# Altium footprint library PcbLib1.PcbLib: 10 footprints
Each footprint in its own frame and in the unit in brackets; x right, y up, seen from the top. Pads: shape width x height; smd on the part's side, far side on the other; paste and mask are expansions set on the pad; w line width, h text height; cw(c..) or ccw(c..) is an arc to the next point about the centre after c.
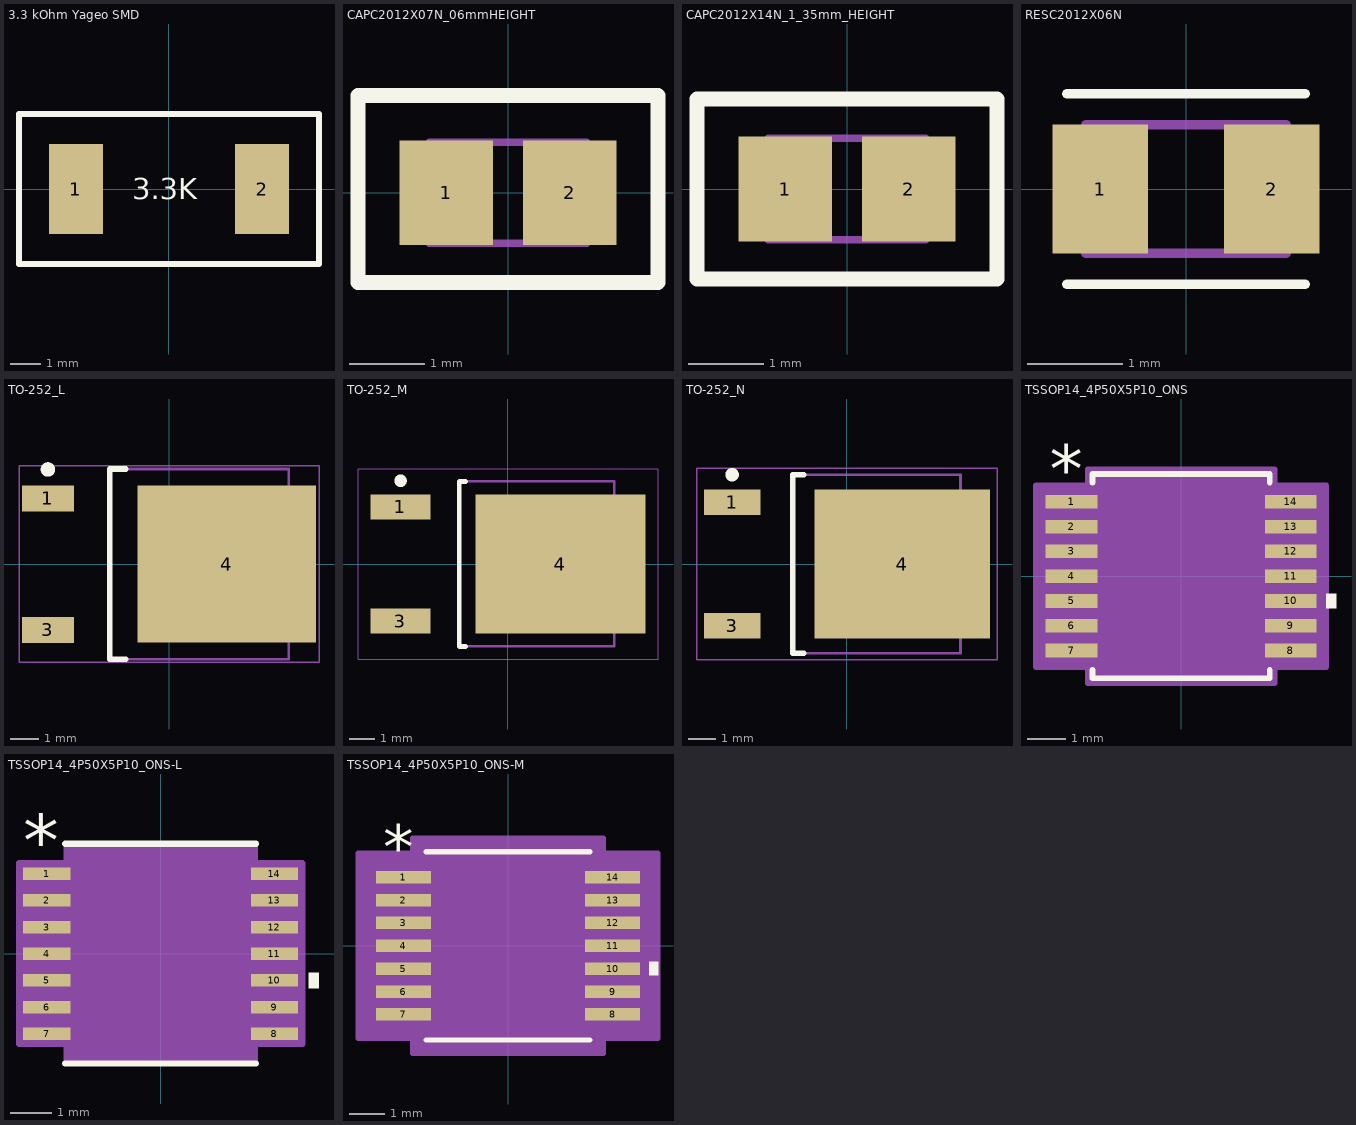
[diagram p0: the footprints below, top view; thin cyan lines are the x and y axes]

## 3.3 kOhm Yageo SMD [mm]
pads (2):
  rect 1.8x3 smd: 1(-3.1,0) 2(3.1,0)
Top Overlay:
  lines w0.2: -5,-2.5 5,-2.5 5,2.5 -5,2.5 -5,-2.5
  text "3.3K" at -1.225,-0.35 h0.7
Top Assembly:
  lines w0.2: -5,-2.5 5,-2.5 5,2.5 -5,2.5 -5,-2.5
  text ".Designator" at -3.499,-0.233 h0.7
3D body "Resistor_SMD_Yageo_2512.STEP": height 0.63, standoff -0.02, extent -3.175,-1.55 3.175,1.55

## CAPC2012X07N_06mmHEIGHT [mm] "Chip Capacitor, 2-Leads, Body 2.00x1.25mm, IPC Medium Density"
height 0.7
pads (2):
  rect 1.25x1.4 smd: 1(-0.825,0) 2(0.825,0)
Top Overlay:
  lines w0.2: -2,-1.2 2,-1.2 2,1.3 -2,1.3 -2,-1.2
Top Assembly:
  lines w0.1: -1.05,-0.675 -1.05,0.675 1.05,0.675 1.05,-0.675 -1.05,-0.675
  text ".Designator" at -3.499,-0.233 h0.7
3D body "CAPC2012X07N.step": height 0.7, standoff 0, extent -1.05,-0.675 1.05,0.675

## CAPC2012X14N_1_35mm_HEIGHT [mm] "Chip Capacitor, 2-Leads, Body 2.00x1.25mm, IPC Medium Density"
height 1.45
pads (2):
  rect 1.25x1.4 smd: 1(-0.825,0) 2(0.825,0)
Top Overlay:
  lines w0.2: -2,-1.2 2,-1.2 2,1.2 -2,1.2 -2,-1.2
Top Assembly:
  lines w0.1: -1.05,-0.675 1.05,-0.675 1.05,0.675 -1.05,0.675 -1.05,-0.675
  text ".Designator" at -3.499,-0.233 h0.7
3D body "CAPC2012X14N.step": height 1.45, standoff 0, extent -1.05,-0.675 1.05,0.675

## RESC2012X06N [mm] "Chip Resistor, 2-Leads, Body 2.00x1.25mm, IPC Medium Density"
height 0.6
pads (2):
  rect 1x1.35 smd: 1(-0.9,0) 2(0.9,0)
Top Overlay:
  lines w0.1: -1.25,-1 1.25,-1 ; -1.25,1 1.25,1
Top Assembly:
  lines w0.1: -1.05,-0.675 -1.05,0.675 1.05,0.675 1.05,-0.675 -1.05,-0.675
  text ".Designator" at -3.499,-0.233 h0.7
3D body "RESC2012X06N.step": height 0.6, standoff 0, extent -1.05,-0.675 1.05,0.675

## TO-252_L [mm] "D-PAK, 4-Leads, Body 6.1x6.5mm, Pitch 2.28mm, Lead Span 9.7mm, IPC High Density"
height 2.4
pads (3):
  rect 1.8x0.9 smd: 1(-4.2,2.28) 3(-4.2,-2.28)
  rect 6.2x5.45 smd: 4(2,0)
Top Overlay:
  circle w0.25: c-4.2,3.28 r0.125
  lines w0.2: -1.5,-3.3 -2.05,-3.3 -2.05,3.3 -1.5,3.3
Mechanical 13:
  lines w0.1: -2.05,-3.3 4.15,-3.3 4.15,3.3 -2.05,3.3 -2.05,-3.3
Mechanical 15:
  lines w0.05: -5.2,-3.4 5.2,-3.4 5.2,3.4 -5.2,3.4 -5.2,-3.4
  lines w0.1: -0.5,0 0.5,0 ; 0,-0.5 0,0.5
3D body: height 2.4, standoff 0, extent -2.05,-3.3 4.15,3.3

## TO-252_M [mm] "D-PAK, 4-Leads, Body 6.1x6.5mm, Pitch 2.28mm, Lead Span 9.7mm, IPC Low Density"
height 2.4
pads (3):
  rect 2.4x1 smd: 1(-4.3,2.28) 3(-4.3,-2.28)
  rect 6.8x5.55 smd: 4(2.1,0)
Top Overlay:
  circle w0.25: c-4.3,3.33 r0.125
  lines w0.2: -1.7,-3.3 -1.95,-3.3 -1.95,3.3 -1.7,3.3
Mechanical 13:
  lines w0.1: -1.95,-3.3 4.25,-3.3 4.25,3.3 -1.95,3.3 -1.95,-3.3
Mechanical 15:
  lines w0.05: -6,-3.8 6,-3.8 6,3.8 -6,3.8 -6,-3.8
  lines w0.1: -0.5,0 0.5,0 ; 0,-0.5 0,0.5
3D body: height 2.4, standoff 0, extent -1.95,-3.3 4.25,3.3

## TO-252_N [mm] "D-PAK, 4-Leads, Body 6.1x6.5mm, Pitch 2.28mm, Lead Span 9.7mm, IPC Medium Density"
height 2.4
pads (3):
  rect 2.1x0.95 smd: 1(-4.25,2.28) 3(-4.25,-2.28)
  rect 6.5x5.5 smd: 4(2.05,0)
Top Overlay:
  circle w0.25: c-4.25,3.305 r0.125
  lines w0.2: -1.6,-3.3 -2,-3.3 -2,3.3 -1.6,3.3
Mechanical 13:
  lines w0.1: -2,-3.3 4.2,-3.3 4.2,3.3 -2,3.3 -2,-3.3
Mechanical 15:
  lines w0.05: -5.55,-3.55 5.55,-3.55 5.55,3.55 -5.55,3.55 -5.55,-3.55
  lines w0.1: -0.5,0 0.5,0 ; 0,-0.5 0,0.5
3D body: height 2.4, standoff 0, extent -2,-3.3 4.2,3.3

## TSSOP14_4P50X5P10_ONS [mil]
pads (14):
  rect 53.5x14 smd paste+0 mask+0: 1(-113.25,76.77) 2(-113.25,51.18) 3(-113.25,25.59) 4(-113.25,0) 5(-113.25,-25.59) 6(-113.25,-51.18) 7(-113.25,-76.77) 8(113.25,-76.77) 9(113.25,-51.18) 10(113.25,-25.59) 11(113.25,0) 12(113.25,25.59) 13(113.25,51.18) 14(113.25,76.77)
Top Overlay:
  region: 150,-18.09 160,-18.09 160,-33.09 150,-33.09
  lines w6: -91.5,-96.87 -91.5,-105.5 91.5,-105.5 91.5,-96.87 ; -91.5,96.87 -91.5,105.5 91.5,105.5 91.5,96.87
  text "*" at -135.75,85.77 h50
Mechanical 13:
  lines w0: -12,100.5 ccw(c0,100.5) 12,100.5
  lines w1: -126,-82.77 -86.5,-82.77 -86.5,-70.77 -126,-70.77 -126,-82.77 ; -126,-57.18 -86.5,-57.18 -86.5,-45.18 -126,-45.18 -126,-57.18 ; -126,-31.59 -86.5,-31.59 -86.5,-19.59 -126,-19.59 -126,-31.59 ; -126,-6 -86.5,-6 -86.5,6 -126,6 -126,-6 ; -126,19.59 -86.5,19.59 -86.5,31.59 -126,31.59 -126,19.59 ; -126,45.18 -86.5,45.18 -86.5,57.18 -126,57.18 -126,45.18 ; -126,70.77 -86.5,70.77 -86.5,82.77 -126,82.77 -126,70.77 ; -86.5,-100.5 -86.5,100.5 86.5,100.5 86.5,-100.5 -86.5,-100.5 ; 86.5,-82.77 126,-82.77 126,-70.77 86.5,-70.77 86.5,-82.77 ; 86.5,-57.18 126,-57.18 126,-45.18 86.5,-45.18 86.5,-57.18 ; 86.5,-31.59 126,-31.59 126,-19.59 86.5,-19.59 86.5,-31.59 ; 86.5,-6 126,-6 126,6 86.5,6 86.5,-6 ; 86.5,19.59 126,19.59 126,31.59 86.5,31.59 86.5,19.59 ; 86.5,45.18 126,45.18 126,57.18 86.5,57.18 86.5,45.18 ; 86.5,70.77 126,70.77 126,82.77 86.5,82.77 86.5,70.77
  text "*" at -84,47.5 h50
Mechanical 15:
  region: -96.5,-93.77 -150,-93.77 -150,93.77 -96.5,93.77 -96.5,110.5 96.5,110.5 96.5,93.77 150,93.77 150,-93.77 96.5,-93.77 96.5,-110.5 -96.5,-110.5
  lines w6: -150,-93.77 -96.5,-93.77 -96.5,-110.5 96.5,-110.5 96.5,-93.77 150,-93.77 150,93.77 96.5,93.77 96.5,110.5 -96.5,110.5 -96.5,93.77 -150,93.77 -150,-93.77
3D body "TSSOP14_4P50X5P10_ONS.step": height 47.09, standoff 0, extent -125.98,-100.51 125.98,100.51

## TSSOP14_4P50X5P10_ONS-L [mil]
pads (14):
  rect 45.5x12 smd paste+0 mask+0: 1(-109.25,76.77) 2(-109.25,51.18) 3(-109.25,25.59) 4(-109.25,0) 5(-109.25,-25.59) 6(-109.25,-51.18) 7(-109.25,-76.77) 8(109.25,-76.77) 9(109.25,-51.18) 10(109.25,-25.59) 11(109.25,0) 12(109.25,25.59) 13(109.25,51.18) 14(109.25,76.77)
Top Overlay:
  region: 142,-18.09 152,-18.09 152,-33.09 142,-33.09
  lines w6: -91.5,-105.5 91.5,-105.5 ; -91.5,105.5 91.5,105.5
  text "*" at -131.75,83.77 h50
Mechanical 13:
  lines w0: -12,100.5 ccw(c0,100.5) 12,100.5
  lines w1: -126,-82.77 -86.5,-82.77 -86.5,-70.77 -126,-70.77 -126,-82.77 ; -126,-57.18 -86.5,-57.18 -86.5,-45.18 -126,-45.18 -126,-57.18 ; -126,-31.59 -86.5,-31.59 -86.5,-19.59 -126,-19.59 -126,-31.59 ; -126,-6 -86.5,-6 -86.5,6 -126,6 -126,-6 ; -126,19.59 -86.5,19.59 -86.5,31.59 -126,31.59 -126,19.59 ; -126,45.18 -86.5,45.18 -86.5,57.18 -126,57.18 -126,45.18 ; -126,70.77 -86.5,70.77 -86.5,82.77 -126,82.77 -126,70.77 ; -86.5,-100.5 -86.5,100.5 86.5,100.5 86.5,-100.5 -86.5,-100.5 ; 86.5,-82.77 126,-82.77 126,-70.77 86.5,-70.77 86.5,-82.77 ; 86.5,-57.18 126,-57.18 126,-45.18 86.5,-45.18 86.5,-57.18 ; 86.5,-31.59 126,-31.59 126,-19.59 86.5,-19.59 86.5,-31.59 ; 86.5,-6 126,-6 126,6 86.5,6 86.5,-6 ; 86.5,19.59 126,19.59 126,31.59 86.5,31.59 86.5,19.59 ; 86.5,45.18 126,45.18 126,57.18 86.5,57.18 86.5,45.18 ; 86.5,70.77 126,70.77 126,82.77 86.5,82.77 86.5,70.77
  text "*" at -84,47.5 h50
Mechanical 15:
  region: -90.5,-86.77 -136,-86.77 -136,86.77 -90.5,86.77 -90.5,104.5 90.5,104.5 90.5,86.77 136,86.77 136,-86.77 90.5,-86.77 90.5,-104.5 -90.5,-104.5
  lines w6: -136,-86.77 -90.5,-86.77 -90.5,-104.5 90.5,-104.5 90.5,-86.77 136,-86.77 136,86.77 90.5,86.77 90.5,104.5 -90.5,104.5 -90.5,86.77 -136,86.77 -136,-86.77
3D body "TSSOP14_4P50X5P10_ONS.step": height 47.09, standoff 0, extent -125.98,-100.51 125.98,100.51

## TSSOP14_4P50X5P10_ONS-M [mil]
pads (14):
  rect 61.5x14 smd paste+0 mask+0: 1(-117.25,76.77) 2(-117.25,51.18) 3(-117.25,25.59) 4(-117.25,0) 5(-117.25,-25.59) 6(-117.25,-51.18) 7(-117.25,-76.77) 8(117.25,-76.77) 9(117.25,-51.18) 10(117.25,-25.59) 11(117.25,0) 12(117.25,25.59) 13(117.25,51.18) 14(117.25,76.77)
Top Overlay:
  region: 158,-18.09 168,-18.09 168,-33.09 158,-33.09
  lines w6: -91.5,-105.5 91.5,-105.5 ; -91.5,105.5 91.5,105.5
  text "*" at -139.75,85.77 h50
Mechanical 13:
  lines w0: -12,100.5 ccw(c0,100.5) 12,100.5
  lines w1: -126,-82.77 -86.5,-82.77 -86.5,-70.77 -126,-70.77 -126,-82.77 ; -126,-57.18 -86.5,-57.18 -86.5,-45.18 -126,-45.18 -126,-57.18 ; -126,-31.59 -86.5,-31.59 -86.5,-19.59 -126,-19.59 -126,-31.59 ; -126,-6 -86.5,-6 -86.5,6 -126,6 -126,-6 ; -126,19.59 -86.5,19.59 -86.5,31.59 -126,31.59 -126,19.59 ; -126,45.18 -86.5,45.18 -86.5,57.18 -126,57.18 -126,45.18 ; -126,70.77 -86.5,70.77 -86.5,82.77 -126,82.77 -126,70.77 ; -86.5,-100.5 -86.5,100.5 86.5,100.5 86.5,-100.5 -86.5,-100.5 ; 86.5,-82.77 126,-82.77 126,-70.77 86.5,-70.77 86.5,-82.77 ; 86.5,-57.18 126,-57.18 126,-45.18 86.5,-45.18 86.5,-57.18 ; 86.5,-31.59 126,-31.59 126,-19.59 86.5,-19.59 86.5,-31.59 ; 86.5,-6 126,-6 126,6 86.5,6 86.5,-6 ; 86.5,19.59 126,19.59 126,31.59 86.5,31.59 86.5,19.59 ; 86.5,45.18 126,45.18 126,57.18 86.5,57.18 86.5,45.18 ; 86.5,70.77 126,70.77 126,82.77 86.5,82.77 86.5,70.77
  text "*" at -84,47.5 h50
Mechanical 15:
  region: -106.5,-103.77 -168,-103.77 -168,103.77 -106.5,103.77 -106.5,120.5 106.5,120.5 106.5,103.77 168,103.77 168,-103.77 106.5,-103.77 106.5,-120.5 -106.5,-120.5
  lines w6: -168,-103.77 -106.5,-103.77 -106.5,-120.5 106.5,-120.5 106.5,-103.77 168,-103.77 168,103.77 106.5,103.77 106.5,120.5 -106.5,120.5 -106.5,103.77 -168,103.77 -168,-103.77
3D body "TSSOP14_4P50X5P10_ONS.step": height 47.09, standoff 0, extent -125.98,-100.51 125.98,100.51